# EAGLE library part TX24-60R-LT-H1E (library EW_Connectors)
CONN RCPT 1.27MM 60POS GOLD R/A
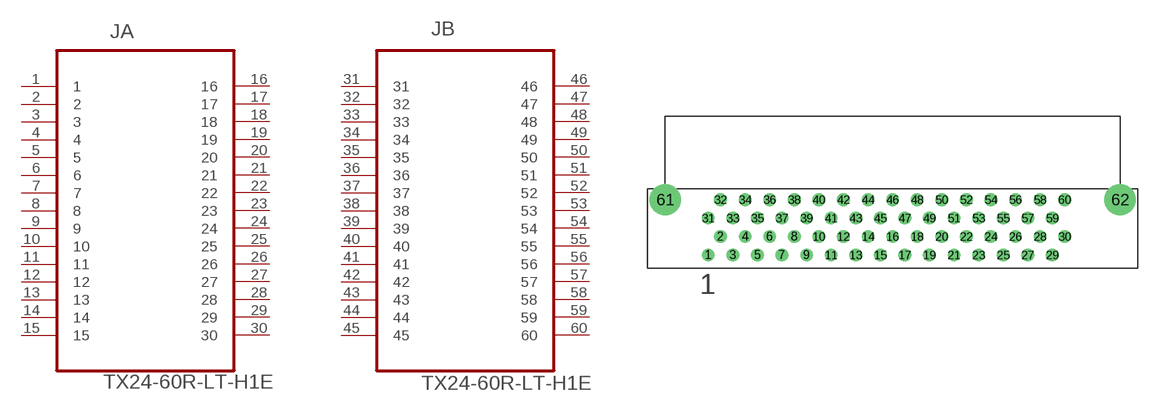
[diagram p39: symbol with the pads of JAE_TX24-60R-LT-H1E; footprint JAE_TX24-60R-LT-H1E]

Designator prefix J; gates A=TX24-60R-LT-H1E_A B=TX24-60R-LT-H1E_B

## TX24-60R-LT-H1E (DATASHEETLINK: http://www.jae.com/z-en/pdf_download_exec.cfm?param=SJ038252.pdf; DESCRIPTION: CONN -60POS; MPN: TX24-60R-LT-H1E; OC_FARNELL: 1519636; OC_NEWARK: 74M4880; ROHS: Yes; SUPPLIER: JAE Electronics)  [JAE_TX24-60R-LT-H1E]
1  A:1  pas
2  A:2  pas
3  A:3  pas
4  A:4  pas
5  A:5  pas
6  A:6  pas
7  A:7  pas
8  A:8  pas
9  A:9  pas
10  A:10  pas
11  A:11  pas
12  A:12  pas
13  A:13  pas
14  A:14  pas
15  A:15  pas
16  A:16  pas
17  A:17  pas
18  A:18  pas
19  A:19  pas
20  A:20  pas
21  A:21  pas
22  A:22  pas
23  A:23  pas
24  A:24  pas
25  A:25  pas
26  A:26  pas
27  A:27  pas
28  A:28  pas
29  A:29  pas
30  A:30  pas
31  B:31  pas
32  B:32  pas
33  B:33  pas
34  B:34  pas
35  B:35  pas
36  B:36  pas
37  B:37  pas
38  B:38  pas
39  B:39  pas
40  B:40  pas
41  B:41  pas
42  B:42  pas
43  B:43  pas
44  B:44  pas
45  B:45  pas
46  B:46  pas
47  B:47  pas
48  B:48  pas
49  B:49  pas
50  B:50  pas
51  B:51  pas
52  B:52  pas
53  B:53  pas
54  B:54  pas
55  B:55  pas
56  B:56  pas
57  B:57  pas
58  B:58  pas
59  B:59  pas
60  B:60  pas

## Footprint JAE_TX24-60R-LT-H1E (pad centres in mm)
drill 0.813: 1 -19.05,-6.858; 2 -17.78,-4.953; 3 -16.51,-6.858; 4 -15.24,-4.953; 5 -13.97,-6.858; 6 -12.7,-4.953; 7 -11.43,-6.858; 8 -10.16,-4.953; 9 -8.89,-6.858; 10 -7.62,-4.953; 11 -6.35,-6.858; 12 -5.08,-4.953; 13 -3.81,-6.858; 14 -2.54,-4.953; 15 -1.27,-6.858; 16 0,-4.953; 17 1.27,-6.858; 18 2.54,-4.953; 19 3.81,-6.858; 20 5.08,-4.953; 21 6.35,-6.858; 22 7.62,-4.953; 23 8.89,-6.858; 24 10.16,-4.953; 25 11.43,-6.858; 26 12.7,-4.953; 27 13.97,-6.858; 28 15.24,-4.953; 29 16.51,-6.858; 30 17.78,-4.953; 31 -19.05,-3.048; 32 -17.78,-1.143; 33 -16.51,-3.048; 34 -15.24,-1.143; 35 -13.97,-3.048; 36 -12.7,-1.143; 37 -11.43,-3.048; 38 -10.16,-1.143; 39 -8.89,-3.048; 40 -7.62,-1.143; 41 -6.35,-3.048; 42 -5.08,-1.143; 43 -3.81,-3.048; 44 -2.54,-1.143; 45 -1.27,-3.048; 46 0,-1.143; 47 1.27,-3.048; 48 2.54,-1.143; 49 3.81,-3.048; 50 5.08,-1.143; 51 6.35,-3.048; 52 7.62,-1.143; 53 8.89,-3.048; 54 10.16,-1.143; 55 11.43,-3.048; 56 12.7,-1.143; 57 13.97,-3.048; 58 15.24,-1.143; 59 16.51,-3.048; 60 17.78,-1.143
drill 2.21: 61 -23.495,-1.143; 62 23.495,-1.143